# Altium schematic symbol library LED.SchLib: 10 symbols
Pins are listed as number, name and electrical type; pins without a type are passive.

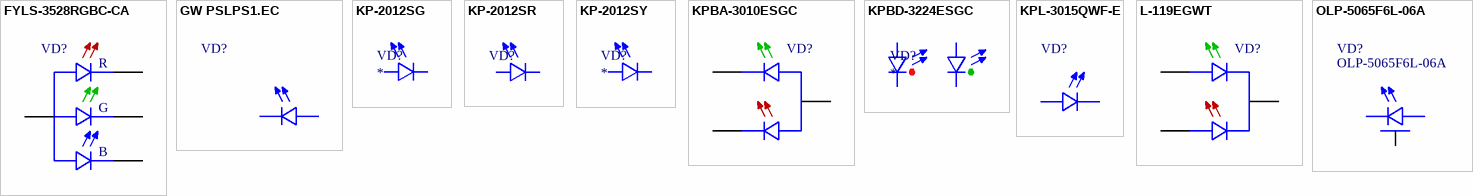
[diagram p0: symbols FYLS-3528RGBC-CA to OLP-5065F6L-06A]

## FYLS-3528RGBC-CA
designator VD?  (value not drawn)
RGB LED; Описание: Светодиод SMD; Аналог: *; NumberSolderPointsSMD: *; NumberSolderPointsTHT: *; Комплект: *
footprint FYLS-3528RGBC-CA
pins: 1, 2, 3, 4
text: R; G; B

## GW PSLPS1.EC
designator VD?  (value not drawn)
White LED 1.0W 155lm 3.0V 350mA; Описание: Светодиод SMD; Аналог: *; NumberSolderPointsSMD: *; NumberSolderPointsTHT: *; Комплект: *
footprint GW PSLPS1.EC
pins: 1, 2

## KP-2012SG
designator VD?
LED 0805 super bright green; Описание: Светодиод SMD 0805; Аналог: нет
footprint KP-2012SG (SMD0805 LED)
pins: 1 A, 2 K

## KP-2012SR
designator VD?, comment KP-2012SRC  (value not drawn)
LED 0805 super bright red; Описание: Светодиод SMD 0805; Аналог: нет; Part Number: KP-2012SRC; ValueEx: KP-2012SRC; Value: KP-2012SRC
footprint KP-2012SR (SMD0805 LED)
pins: 1, 2

## KP-2012SY
designator VD?
LED 0805 super bright yellow; Описание: Светодиод SMD 0805; Аналог: нет
footprint KP-2012SY (SMD0805 LED)
pins: 1 A, 2 K

## KPBA-3010ESGC
designator VD?  (value not drawn)
Right-angle red/green LED; Описание: Светодиод SMD; Аналог: *; NumberSolderPointsSMD: *; NumberSolderPointsTHT: *; Комплект: *
footprint KPBA-3010ESGC
pins: 1, 2, 3

## KPBD-3224ESGC
designator VD?
LED; Описание: Светодиод SMD; Аналог: нет
footprint KPBD-3224ESGC
pins: 1 A, 2 K, 3 A, 4 K

## KPL-3015QWF-E
designator VD?  (value not drawn)
White LED 0.1W 3.3V 20mA; Описание: Светодиод SMD; Аналог: *; NumberSolderPointsSMD: *; NumberSolderPointsTHT: *; Комплект: *
footprint KPL-3015QWF-E
pins: 1, 2

## L-119EGWT
designator VD?  (value not drawn)
Right-angle red/green LED; Описание: Светодиод красный/зеленый; Аналог: *; NumberSolderPointsSMD: *; NumberSolderPointsTHT: *; Комплект: *
footprint L-119EGWT(rightAngleVar1)
pins: 1, 2, 3

## OLP-5065F6L-06A
designator VD?
White LED 1.0W 155lm 3.0V 350mA; Описание: Светодиод SMD; Аналог: *; NumberSolderPointsSMD: *; NumberSolderPointsTHT: *; Комплект: *
footprint OLP-5065F6L-06A(manualVar1)
footprint OLP-5065F6L-06A(manualVar2)
pins: 1, 2, 3